# EAGLE library part WE-RJ45_74990214400 (library WE-RJ45_LAN)
WE-RJ45 LAN Transformer Characteristics RJ45 Connector with integrated transformer / common mode choke Power over Ethernet up to 50 Watt and speeds up to 10 Gbit/s Available in SMD, THT and THT with USB Compliant with standards: IEEE 802.3u, IEEE 802.3ab, IEEE 802.3af, IEEE 802.3at, IEEE 802.3an and upcoming IEE 802.3bt Applications Suitable for industrial temperatures from –40 °C up to +85 °C Compatible to Industrial Ethernet systems like EtherCAT or Profinet Compliant with most IC’s for Ethernet applications such as Microchip, Texas Instruments, Broadcom, Linear Technology Hubs, Routers, Switches, IP cameras, IoT applications Details see: www.we-online.com/components/products/WE-LAN-RJ45 Created by Ella Wu 2020-10-27 2020 (C) Würth Elektronik
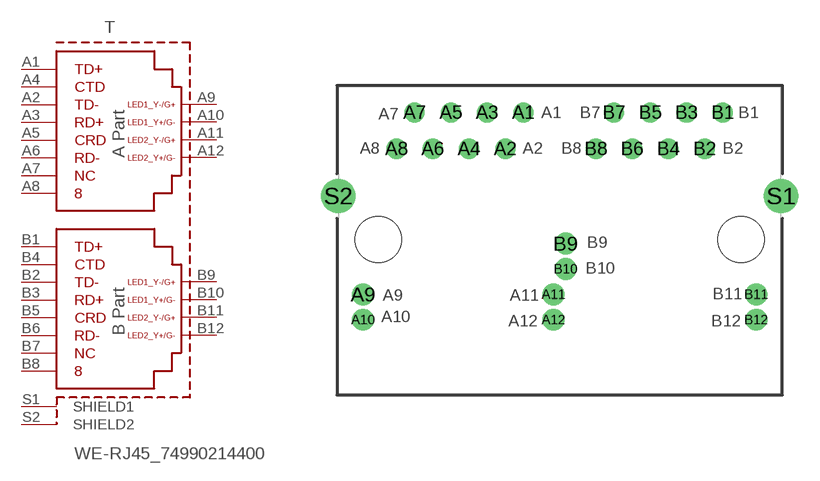
[diagram p5: symbol with the pads of 74990214400; footprint 74990214400]

Designator prefix T

## WE-RJ45_74990214400 (DATA-RATE: 10/100BASE-T; DATASHEET: https://www.we-online.com/redexpert/spec/74990214400?ae; IMPROVED-CMRR: No; LED: yellow-green; MOUNT: THT; OPERATING-TEMPERATURE: -40 °C up to +85 °C; PART-NUMBER: 74990214400; PHY-CHIP-MODE: current & voltage; POE: non-PoE; PORTS: 1x2; SHIELD-TABS: Yes; TAB: Up; USB: No; VALUE: 74990214400)  [74990214400]
A1  A1  pas
A2  A2  pas
A3  A3  pas
A4  A4  pas
A5  A5  pas
A6  A6  pas
A7  A7  pas
A8  A8  pas
A9  A9  pas
A10  A10  pas
A11  A11  pas
A12  A12  pas
B1  B1  pas
B2  B2  pas
B3  B3  pas
B4  B4  pas
B5  B5  pas
B6  B6  pas
B7  B7  pas
B8  B8  pas
B9  B9  pas
B10  B10  pas
B11  B11  pas
B12  B12  pas
S1  SHIELD1  pas
S2  SHIELD2  pas

## Footprint 74990214400 (pad centres in mm)
WE-RJ45 LAN Transformer 10/100BASE-T, Ports:1x2, Tab:Up
drill 0.9: A1 -2.54,8.89; A2 -3.81,6.35; A3 -5.08,8.89; A4 -6.35,6.35; A5 -7.62,8.89; A6 -8.89,6.35; A7 -10.16,8.89; A8 -11.43,6.35; B1 11.43,8.89; B2 10.16,6.35; B3 8.89,8.89; B4 7.62,6.35; B5 6.35,8.89; B6 5.08,6.35; B7 3.81,8.89; B8 2.54,6.35
drill 1.02: A9 -13.77,-3.84; A10 -13.77,-5.62; A11 -0.43,-3.84; A12 -0.43,-5.62; B9 0.42,-0.28; B10 0.42,-2.06; B11 13.77,-3.84; B12 13.77,-5.62
drill 1.6: S1 15.5,3.05; S2 -15.5,3.05
hole 3.25 at -12.7,0
hole 3.25 at 12.7,0